# Altium footprint library SnapEDApcb.PcbLib: 1 footprints
Each footprint in its own frame and in the unit in brackets; x right, y up, seen from the top. Pads: shape width x height; smd on the part's side, far side on the other; paste and mask are expansions set on the pad; w line width, h text height; cw(c..) or ccw(c..) is an arc to the next point about the centre after c.
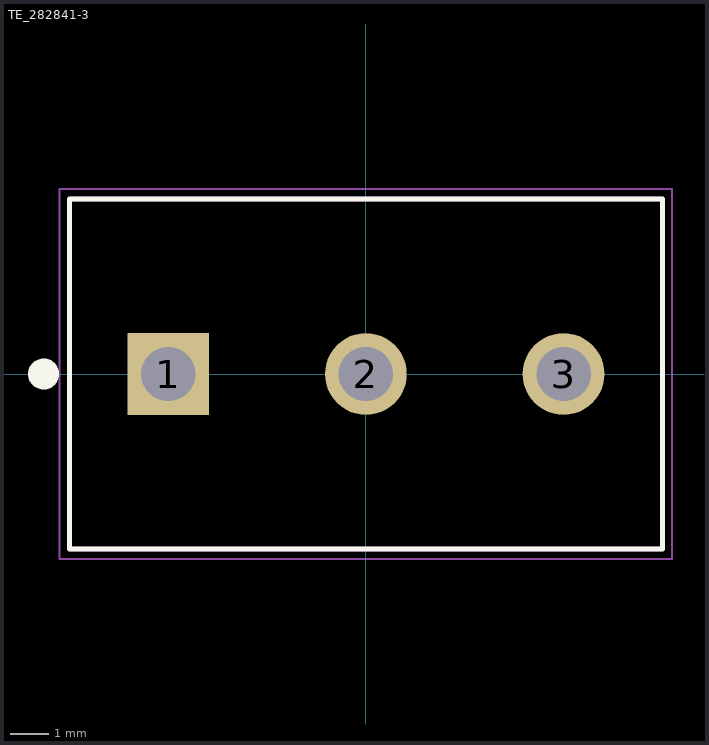
[diagram p0: the footprint, top view; thin cyan lines are the x and y axes]

## TE_282841-3 [mm]
pads (3):
  rect 2.1x2.1 hole 1.4: 1(-5.08,0)
  round 2.1 hole 1.4: 2(0,0) 3(5.08,0)
Top Overlay:
  circle w0.4: c-8.28,0 r0.2
  lines w0.127: -7.62,-4.5 7.62,-4.5 7.62,4.5 -7.62,4.5 -7.62,-4.5
Mechanical 13:
  lines w0.127: -7.62,-4.5 7.62,-4.5 7.62,4.5 -7.62,4.5 -7.62,-4.5
Mechanical 15:
  lines w0.05: -7.87,-4.75 -7.87,4.75 7.87,4.75 7.87,-4.75 -7.87,-4.75